# EAGLE library part TPD4S014 (library pandaLight)
Complete USB Port Protection Device
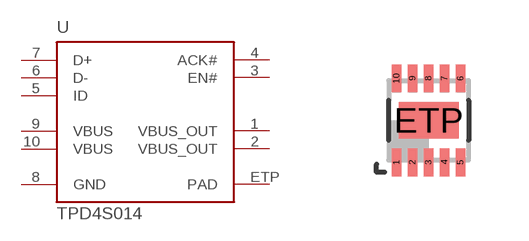
[diagram p11: symbol with the pads of SON10; footprint SON10]

Designator prefix -

## TPD4S014SON  [SON10]
1  VBUS_OUT  sup
2  VBUS_OUT  sup
3  EN#  in
4  ACK#  out
5  ID  in
6  D-  in
7  D+  in
8  GND  pwr
9  VBUS  pwr
10  VBUS  pwr
ETP  PAD  nc

## Footprint SON10 (pad centres in mm)
smd 0.23 x 0.7: 1 -0.8,-1.05; 2 -0.4,-1.05; 3 0,-1.05; 4 0.4,-1.05; 5 0.8,-1.05; 6 0.8,1.05; 7 0.4,1.05; 8 0,1.05; 9 -0.4,1.05; 10 -0.8,1.05
smd 1.5 x 0.9: ETP 0,0